# EAGLE library part 87758-06_S (library untitled)
HEADER
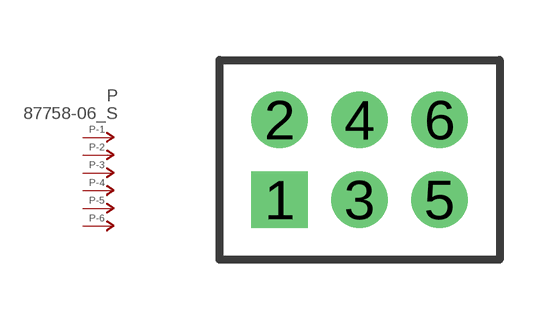
[diagram p335: symbol with the pads of 87758-06; footprint 87758-06]

Designator prefix P; gates -1=P-NV -2=P-N -3=P-N -4=P-N -5=P-N -6=P-N

## 87758-06_S  [87758-06]
1  -1:P  pas
2  -2:P  pas
3  -3:P  pas
4  -4:P  pas
5  -5:P  pas
6  -6:P  pas

## Footprint 87758-06 (pad centres in mm)
HEADER Dual Row, Vertical
drill 0.914 square: 1 -2,-1
drill 0.914 round: 2 -2,1; 3 0,-1; 4 0,1; 5 2,-1; 6 2,1